# Altium footprint library ti-import.PcbLib: 47 footprints (part 2 of 3)
Each footprint in its own frame and in the unit in brackets; x right, y up, seen from the top. Pads: shape width x height; smd on the part's side, far side on the other; paste and mask are expansions set on the pad; w line width, h text height; cw(c..) or ccw(c..) is an arc to the next point about the centre after c.
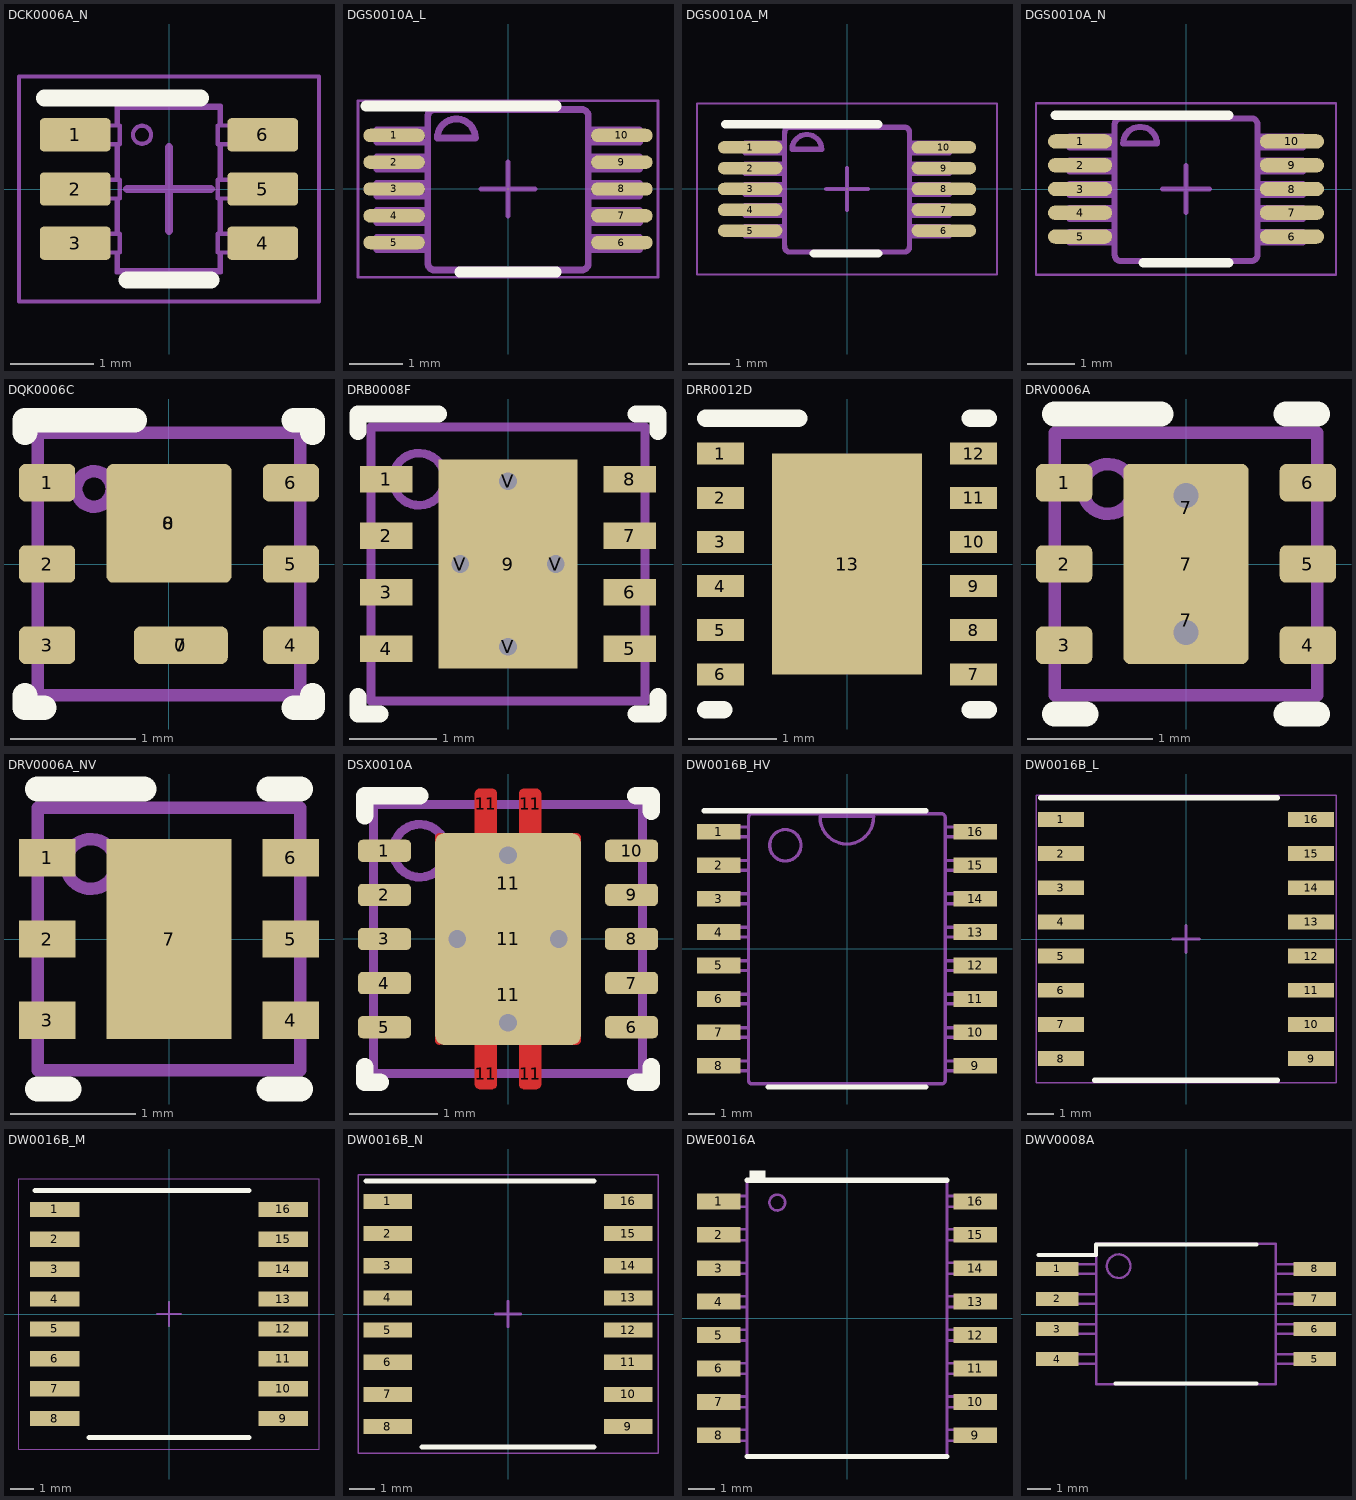
[diagram p1: the footprints below, top view; thin cyan lines are the x and y axes]

## DCK0006A_N [mm] "SOT23, 6-Leads, Body 2x1.3mm, Pitch 0.65mm, Lead Span 2.1mm, IPC Medium Density"
height 1.1
pads (6):
  rrect25% 0.85x0.4 smd: 1(-1.125,0.65) 2(-1.125,0) 3(-1.125,-0.65) 4(1.125,-0.65) 5(1.125,0) 6(1.125,0.65)
Top Overlay:
  lines w0.2: -1.499,1.092 0.381,1.092 ; -0.508,-1.092 0.508,-1.092
Mechanical 5:
  lines w0.05: -0.613,-0.763 -0.613,-0.976 0.607,-0.976 0.607,-0.763 ; -0.613,-0.538 -0.613,-0.113 ; -0.613,0.112 -0.613,0.537 ; -0.613,0.762 -0.613,0.974 0.607,0.974 0.607,0.762 ; 0.607,-0.538 0.607,-0.113 ; 0.607,0.112 0.607,0.537 ; -0.628,-0.763 -0.591,-0.763 -0.591,-0.538 -0.628,-0.538 ; -0.628,-0.763 -0.853,-0.763 -0.865,-0.763 -0.959,-0.763 -1.143,-0.763 -1.143,-0.538 -0.959,-0.538 -0.865,-0.538 -0.853,-0.538 -0.628,-0.538 ; -0.628,-0.763 -0.628,-1.001 0.622,-1.001 0.622,-0.763 ; -0.628,-0.538 -0.628,-0.113 ; -0.628,-0.113 -0.591,-0.113 -0.591,0.112 -0.628,0.112 ; -0.628,-0.113 -0.853,-0.113 -0.865,-0.113 -0.959,-0.113 -1.143,-0.113 -1.143,0.112 -0.959,0.112 -0.865,0.112 -0.853,0.112 -0.628,0.112 ; -0.628,0.112 -0.628,0.537 ; -0.628,0.537 -0.591,0.537 -0.591,0.762 -0.628,0.762 ; -0.628,0.537 -0.853,0.537 -0.865,0.537 -0.959,0.537 -1.143,0.537 -1.143,0.762 -0.959,0.762 -0.865,0.762 -0.853,0.762 -0.628,0.762 ; -0.628,0.762 -0.628,0.999 0.622,0.999 0.622,0.762 ; 0.622,-0.763 0.585,-0.763 0.585,-0.538 0.622,-0.538 ; 0.622,-0.763 0.847,-0.763 0.859,-0.763 0.953,-0.763 1.137,-0.763 1.137,-0.538 0.953,-0.538 0.859,-0.538 0.847,-0.538 0.622,-0.538 ; 0.622,-0.538 0.622,-0.113 ; 0.622,-0.113 0.847,-0.113 0.859,-0.113 0.953,-0.113 1.137,-0.113 1.137,0.112 0.953,0.112 0.859,0.112 0.847,0.112 0.622,0.112 ; 0.622,-0.113 0.585,-0.113 0.585,0.112 0.622,0.112 ; 0.622,0.112 0.622,0.537 ; 0.622,0.537 0.585,0.537 0.585,0.762 0.622,0.762 ; 0.622,0.537 0.847,0.537 0.859,0.537 0.953,0.537 1.137,0.537 1.137,0.762 0.953,0.762 0.859,0.762 0.847,0.762 0.622,0.762 ; -0.432,0.65 ccw(c-0.323,0.65) -0.215,0.65 ccw(c-0.323,0.65) -0.432,0.65
  text ".Designator" at -0.051,0.66 h0.38
Mechanical 15:
  lines w0.05: -1.8,-1.35 1.8,-1.35 1.8,1.35 -1.8,1.35 -1.8,-1.35
  lines w0.1: -0.5,0 0.5,0 ; 0,-0.5 0,0.5
3D body "DCK0006A.stp": height 0.95, standoff 0, extent -1.14,-1 1.14,1

## DGS0010A_L [mm]
pads (10):
  oval 1.15x0.25 smd paste+0 mask+0.051: 1(-2.125,1) 2(-2.125,0.5) 3(-2.125,0) 4(-2.125,-0.5) 5(-2.125,-1) 6(2.125,-1) 7(2.125,-0.5) 8(2.125,0) 9(2.125,0.5) 10(2.125,1)
Top Overlay:
  lines w0.2: -2.65,1.55 0.9,1.55 ; -0.9,-1.55 0.9,-1.55
Mechanical 13:
  lines w0.127: -2.45,-1.128 -2.21,-1.128 -2.09,-1.128 -2.087,-1.128 -1.784,-1.128 -1.498,-1.128 -1.498,-0.899 -1.784,-0.899 -2.087,-0.899 -2.09,-0.899 -2.21,-0.899 -2.45,-0.899 -2.45,-1.128 ; -2.45,-0.628 -2.21,-0.628 -2.09,-0.628 -2.087,-0.628 -1.784,-0.628 -1.498,-0.628 -1.498,-0.4 -1.784,-0.4 -2.087,-0.4 -2.09,-0.4 -2.21,-0.4 -2.45,-0.4 -2.45,-0.628 ; -2.45,-0.128 -2.21,-0.128 -2.09,-0.128 -2.087,-0.128 -1.784,-0.128 -1.498,-0.128 -1.498,0.1 -1.784,0.1 -2.087,0.1 -2.09,0.1 -2.21,0.1 -2.45,0.1 -2.45,-0.128 ; -2.45,0.372 -2.21,0.372 -2.09,0.372 -2.087,0.372 -1.784,0.372 -1.498,0.372 -1.498,0.6 -1.784,0.6 -2.087,0.6 -2.09,0.6 -2.21,0.6 -2.45,0.6 -2.45,0.372 ; -2.45,0.871 -2.21,0.871 -2.09,0.871 -2.087,0.871 -1.784,0.871 -1.498,0.871 -1.498,1.1 -1.784,1.1 -2.087,1.1 -2.09,1.1 -2.21,1.1 -2.45,1.1 -2.45,0.871 ; -1.497,-1.388 ccw(c-1.37,-1.386) -1.373,-1.513 -1.371,-1.513 1.373,-1.513 1.375,-1.513 ccw(c1.373,-1.386) 1.5,-1.388 1.5,-1.386 1.5,1.358 1.5,1.36 ccw(c1.373,1.358) 1.375,1.485 1.373,1.485 -1.371,1.485 -1.373,1.485 ccw(c-1.37,1.358) -1.497,1.36 -1.498,1.358 -1.498,-1.386 -1.497,-1.388 ; -1.32,0.951 cw(c-0.964,0.951) -0.609,0.951 -1.32,0.951 ; 1.5,-1.128 1.786,-1.128 2.089,-1.128 2.093,-1.128 2.213,-1.128 2.452,-1.128 2.452,-0.899 2.213,-0.899 2.093,-0.899 2.089,-0.899 1.786,-0.899 1.5,-0.899 1.5,-1.128 ; 1.5,-0.628 1.786,-0.628 2.089,-0.628 2.093,-0.628 2.213,-0.628 2.452,-0.628 2.452,-0.4 2.213,-0.4 2.093,-0.4 2.089,-0.4 1.786,-0.4 1.5,-0.4 1.5,-0.628 ; 1.5,-0.128 1.786,-0.128 2.089,-0.128 2.093,-0.128 2.213,-0.128 2.452,-0.128 2.452,0.1 2.213,0.1 2.093,0.1 2.089,0.1 1.786,0.1 1.5,0.1 1.5,-0.128 ; 1.5,0.372 1.786,0.372 2.089,0.372 2.093,0.372 2.213,0.372 2.452,0.372 2.452,0.6 2.213,0.6 2.093,0.6 2.089,0.6 1.786,0.6 1.5,0.6 1.5,0.372 ; 1.5,0.871 1.786,0.871 2.089,0.871 2.093,0.871 2.213,0.871 2.452,0.871 2.452,1.1 2.213,1.1 2.093,1.1 2.089,1.1 1.786,1.1 1.5,1.1 1.5,0.871
Mechanical 15:
  lines w0.05: -2.8,-1.65 -2.8,1.65 2.8,1.65 2.8,-1.65 -2.8,-1.65
  lines w0.1: -0.5,0 0.5,0 ; 0,-0.5 0,0.5
3D body "DGS0010A.stp": height 0.41, standoff -0.69, extent -2.463,-1.5 2.463,1.5

## DGS0010A_M [mm]
pads (10):
  oval 1.55x0.3 smd paste+0 mask+0.051: 1(-2.325,1) 2(-2.325,0.5) 3(-2.325,0) 4(-2.325,-0.5) 5(-2.325,-1) 6(2.325,-1) 7(2.325,-0.5) 8(2.325,0) 9(2.325,0.5) 10(2.325,1)
Top Overlay:
  lines w0.2: -2.925,1.55 0.75,1.55 ; -0.8,-1.55 0.75,-1.55
Mechanical 13:
  lines w0.127: -2.45,-1.128 -2.45,-0.899 -2.21,-0.899 -2.09,-0.899 -2.087,-0.899 -1.784,-0.899 -1.498,-0.899 -1.498,-1.128 -1.784,-1.128 -2.087,-1.128 -2.09,-1.128 -2.21,-1.128 -2.45,-1.128 ; -2.45,-0.628 -2.45,-0.4 -2.21,-0.4 -2.09,-0.4 -2.087,-0.4 -1.784,-0.4 -1.498,-0.4 -1.498,-0.628 -1.784,-0.628 -2.087,-0.628 -2.09,-0.628 -2.21,-0.628 -2.45,-0.628 ; -2.45,-0.128 -2.45,0.1 -2.21,0.1 -2.09,0.1 -2.087,0.1 -1.784,0.1 -1.498,0.1 -1.498,-0.128 -1.784,-0.128 -2.087,-0.128 -2.09,-0.128 -2.21,-0.128 -2.45,-0.128 ; -2.45,0.372 -2.45,0.6 -2.21,0.6 -2.09,0.6 -2.087,0.6 -1.784,0.6 -1.498,0.6 -1.498,0.372 -1.784,0.372 -2.087,0.372 -2.09,0.372 -2.21,0.372 -2.45,0.372 ; -2.45,0.871 -2.45,1.1 -2.21,1.1 -2.09,1.1 -2.087,1.1 -1.784,1.1 -1.498,1.1 -1.498,0.871 -1.784,0.871 -2.087,0.871 -2.09,0.871 -2.21,0.871 -2.45,0.871 ; -1.497,-1.388 ccw(c-1.37,-1.386) -1.373,-1.513 -1.371,-1.513 1.373,-1.513 1.375,-1.513 ccw(c1.373,-1.386) 1.5,-1.388 1.5,-1.386 1.5,1.358 1.5,1.36 ccw(c1.373,1.358) 1.375,1.485 1.373,1.485 -1.371,1.485 -1.373,1.485 ccw(c-1.37,1.358) -1.497,1.36 -1.498,1.358 -1.498,-1.386 -1.497,-1.388 ; -1.32,0.951 cw(c-0.964,0.951) -0.609,0.951 -1.32,0.951 ; 1.5,-1.128 1.5,-0.899 1.786,-0.899 2.089,-0.899 2.093,-0.899 2.213,-0.899 2.452,-0.899 2.452,-1.128 2.213,-1.128 2.093,-1.128 2.089,-1.128 1.786,-1.128 1.5,-1.128 ; 1.5,-0.628 1.5,-0.4 1.786,-0.4 2.089,-0.4 2.093,-0.4 2.213,-0.4 2.452,-0.4 2.452,-0.628 2.213,-0.628 2.093,-0.628 2.089,-0.628 1.786,-0.628 1.5,-0.628 ; 1.5,-0.128 1.5,0.1 1.786,0.1 2.089,0.1 2.093,0.1 2.213,0.1 2.452,0.1 2.452,-0.128 2.213,-0.128 2.093,-0.128 2.089,-0.128 1.786,-0.128 1.5,-0.128 ; 1.5,0.372 1.5,0.6 1.786,0.6 2.089,0.6 2.093,0.6 2.213,0.6 2.452,0.6 2.452,0.372 2.213,0.372 2.093,0.372 2.089,0.372 1.786,0.372 1.5,0.372 ; 1.5,0.871 1.5,1.1 1.786,1.1 2.089,1.1 2.093,1.1 2.213,1.1 2.452,1.1 2.452,0.871 2.213,0.871 2.093,0.871 2.089,0.871 1.786,0.871 1.5,0.871
Mechanical 15:
  lines w0.05: -3.6,-2.05 -3.6,2.05 3.6,2.05 3.6,-2.05 -3.6,-2.05
  lines w0.1: -0.5,0 0.5,0 ; 0,-0.5 0,0.5
3D body "DGS0010A.stp": height 0.41, standoff -0.69, extent -2.463,-1.5 2.463,1.5

## DGS0010A_N [mm]
pads (10):
  oval 1.35x0.3 smd paste+0 mask+0.051: 1(-2.225,1) 2(-2.225,0.5) 3(-2.225,0) 4(-2.225,-0.5) 5(-2.225,-1) 6(2.225,-1) 7(2.225,-0.5) 8(2.225,0) 9(2.225,0.5) 10(2.225,1)
Top Overlay:
  lines w0.2: -2.75,1.55 0.9,1.55 ; -0.9,-1.55 0.9,-1.55
Mechanical 13:
  lines w0.127: -2.45,-1.128 -2.21,-1.128 -2.09,-1.128 -2.087,-1.128 -1.784,-1.128 -1.498,-1.128 -1.498,-0.899 -1.784,-0.899 -2.087,-0.899 -2.09,-0.899 -2.21,-0.899 -2.45,-0.899 -2.45,-1.128 ; -2.45,-0.628 -2.21,-0.628 -2.09,-0.628 -2.087,-0.628 -1.784,-0.628 -1.498,-0.628 -1.498,-0.4 -1.784,-0.4 -2.087,-0.4 -2.09,-0.4 -2.21,-0.4 -2.45,-0.4 -2.45,-0.628 ; -2.45,-0.128 -2.21,-0.128 -2.09,-0.128 -2.087,-0.128 -1.784,-0.128 -1.498,-0.128 -1.498,0.1 -1.784,0.1 -2.087,0.1 -2.09,0.1 -2.21,0.1 -2.45,0.1 -2.45,-0.128 ; -2.45,0.372 -2.21,0.372 -2.09,0.372 -2.087,0.372 -1.784,0.372 -1.498,0.372 -1.498,0.6 -1.784,0.6 -2.087,0.6 -2.09,0.6 -2.21,0.6 -2.45,0.6 -2.45,0.372 ; -2.45,0.871 -2.21,0.871 -2.09,0.871 -2.087,0.871 -1.784,0.871 -1.498,0.871 -1.498,1.1 -1.784,1.1 -2.087,1.1 -2.09,1.1 -2.21,1.1 -2.45,1.1 -2.45,0.871 ; -1.497,-1.388 ccw(c-1.37,-1.386) -1.373,-1.513 -1.371,-1.513 1.373,-1.513 1.375,-1.513 ccw(c1.373,-1.386) 1.5,-1.388 1.5,-1.386 1.5,1.358 1.5,1.36 ccw(c1.373,1.358) 1.375,1.485 1.373,1.485 -1.371,1.485 -1.373,1.485 ccw(c-1.37,1.358) -1.497,1.36 -1.498,1.358 -1.498,-1.386 -1.497,-1.388 ; -1.32,0.951 cw(c-0.964,0.951) -0.609,0.951 -1.32,0.951 ; 1.5,-1.128 1.786,-1.128 2.089,-1.128 2.093,-1.128 2.213,-1.128 2.452,-1.128 2.452,-0.899 2.213,-0.899 2.093,-0.899 2.089,-0.899 1.786,-0.899 1.5,-0.899 1.5,-1.128 ; 1.5,-0.628 1.786,-0.628 2.089,-0.628 2.093,-0.628 2.213,-0.628 2.452,-0.628 2.452,-0.4 2.213,-0.4 2.093,-0.4 2.089,-0.4 1.786,-0.4 1.5,-0.4 1.5,-0.628 ; 1.5,-0.128 1.786,-0.128 2.089,-0.128 2.093,-0.128 2.213,-0.128 2.452,-0.128 2.452,0.1 2.213,0.1 2.093,0.1 2.089,0.1 1.786,0.1 1.5,0.1 1.5,-0.128 ; 1.5,0.372 1.786,0.372 2.089,0.372 2.093,0.372 2.213,0.372 2.452,0.372 2.452,0.6 2.213,0.6 2.093,0.6 2.089,0.6 1.786,0.6 1.5,0.6 1.5,0.372 ; 1.5,0.871 1.786,0.871 2.089,0.871 2.093,0.871 2.213,0.871 2.452,0.871 2.452,1.1 2.213,1.1 2.093,1.1 2.089,1.1 1.786,1.1 1.5,1.1 1.5,0.871
Mechanical 15:
  lines w0.05: -3.15,-1.8 -3.15,1.8 3.15,1.8 3.15,-1.8 -3.15,-1.8
  lines w0.1: -0.5,0 0.5,0 ; 0,-0.5 0,0.5
3D body "DGS0010A.stp": height 0.41, standoff -0.69, extent -2.463,-1.5 2.463,1.5

## DQK0006C [mm] "WSON"
height 0.8
pads (10):
  rrect50% 0.9x0.86 on Top Paste: 0(0,0.325)
  rrect50% 0.7x0.29 on Top Paste: 0(0.095,-0.65)
  rrect33% 0.45x0.3 smd: 1(-0.975,0.65) 2(-0.975,0) 3(-0.975,-0.65) 4(0.975,-0.65) 5(0.975,0) 6(0.975,0.65)
  rrect33% 0.75x0.3 smd paste-0.15: 7(0.095,-0.65)
  rrect11% 1x0.95 smd paste-0.5: 8(0,0.325)
Top Overlay:
  lines w0.2: -1.15,-1.05 -1.15,-1.15 -1,-1.15 ; -1.15,1.05 -1.15,1.15 -0.275,1.15 ; 1,-1.15 1.15,-1.15 1.15,-1.05 ; 1,1.15 1.15,1.15 1.15,1.05
Mechanical 5:
  circle w0.1: c-0.6,0.6 r0.141
  lines w0.1: -1.05,-1.05 1.05,-1.05 1.05,1.05 -1.05,1.05 -1.05,-1.05
  text ".Designator" at -0.9,-0.4 h0.5
3D body "DQK0006C.stp": height 0.82, standoff 0, extent -1,-1 1,1

## DRB0008F [mm]
pads (13):
  rect 0.6x0.3 smd paste+0 mask+0: 1(-1.4,0.975) 2(-1.4,0.325) 3(-1.4,-0.325) 4(-1.4,-0.975) 5(1.4,-0.975) 6(1.4,-0.325) 7(1.4,0.325) 8(1.4,0.975)
  rect 1.6x2.4 smd paste-1.187 mask+0: 9(0,0)
  round 0.5 / inner round 1.524 / far side round 0.5 hole 0.203 mask+0: V(-0.55,0) V(0,-0.95) V(0,0.95) V(0.55,0)
Top Overlay:
  lines w0.2: -1.725,-1.525 -1.725,-1.725 -1.475,-1.725 ; -1.725,1.525 -1.725,1.725 -0.8,1.725 ; 1.475,-1.725 1.725,-1.725 1.725,-1.525 ; 1.475,1.725 1.725,1.725 1.725,1.525
Top Paste:
  region: -0.734,0.139 -0.735,0.148 -0.735,1.122 -0.734,1.131 -0.731,1.14 -0.727,1.149 -0.721,1.156 -0.714,1.162 -0.705,1.166 -0.696,1.169 -0.687,1.17 0.687,1.17 0.696,1.169 0.705,1.166 0.714,1.162 0.721,1.156 0.727,1.149 0.731,1.14 0.734,1.131 0.735,1.122 0.735,0.148 0.734,0.139 0.731,0.13 0.727,0.121 0.721,0.114 0.714,0.108 0.705,0.104 0.696,0.101 0.687,0.1 -0.687,0.1 -0.696,0.101 -0.705,0.104 -0.714,0.108 -0.721,0.114 -0.727,0.121 -0.731,0.13
  region: -0.734,-1.131 -0.735,-1.122 -0.735,-0.148 -0.734,-0.139 -0.731,-0.13 -0.727,-0.121 -0.721,-0.114 -0.714,-0.108 -0.705,-0.104 -0.696,-0.101 -0.687,-0.1 0.687,-0.1 0.696,-0.101 0.705,-0.104 0.714,-0.108 0.721,-0.114 0.727,-0.121 0.731,-0.13 0.734,-0.139 0.735,-0.148 0.735,-1.122 0.734,-1.131 0.731,-1.14 0.727,-1.149 0.721,-1.156 0.714,-1.162 0.705,-1.166 0.696,-1.169 0.687,-1.17 -0.687,-1.17 -0.696,-1.169 -0.705,-1.166 -0.714,-1.162 -0.721,-1.156 -0.727,-1.149 -0.731,-1.14
Mechanical 13:
  circle w0.1: c-1.025,0.975 r0.3
  lines w0.1: -1.575,-1.575 -1.575,1.575 1.575,1.575 1.575,-1.575 -1.575,-1.575
3D body "DRB0008F.stp": height 0.77, standoff 0, extent -1.5,-1.5 1.5,1.5

## DRR0012D [mm]
pads (13):
  rect 0.53x0.25 smd paste+0 mask+0.051: 1(-1.435,1.25) 2(-1.435,0.75) 3(-1.435,0.25) 4(-1.435,-0.25) 5(-1.435,-0.75) 6(-1.435,-1.25) 7(1.435,-1.25) 8(1.435,-0.75) 9(1.435,-0.25) 10(1.435,0.25) 11(1.435,0.75) 12(1.435,1.25)
  rect 1.7x2.5 smd paste-1.237 mask+0.051: 13(0,0)
Top Overlay:
  lines w0.2: -1.6,-1.65 -1.4,-1.65 ; -1.6,1.65 -0.55,1.65 ; 1.4,-1.65 1.6,-1.65 ; 1.4,1.65 1.6,1.65
Top Paste:
  region: -0.774,-1.16 -0.775,-1.151 -0.775,-0.15 -0.774,-0.14 -0.771,-0.131 -0.767,-0.122 -0.761,-0.114 -0.753,-0.108 -0.744,-0.104 -0.735,-0.101 -0.726,-0.1 0.726,-0.1 0.735,-0.101 0.744,-0.104 0.753,-0.108 0.761,-0.114 0.767,-0.122 0.771,-0.131 0.774,-0.14 0.775,-0.15 0.775,-1.151 0.774,-1.16 0.771,-1.169 0.767,-1.178 0.761,-1.186 0.753,-1.192 0.744,-1.196 0.735,-1.199 0.726,-1.2 -0.726,-1.2 -0.735,-1.199 -0.744,-1.196 -0.753,-1.192 -0.761,-1.186 -0.767,-1.178 -0.771,-1.169
  region: -0.774,0.14 -0.775,0.15 -0.775,1.151 -0.774,1.16 -0.771,1.169 -0.767,1.178 -0.761,1.186 -0.753,1.192 -0.744,1.196 -0.735,1.199 -0.726,1.2 0.726,1.2 0.735,1.199 0.744,1.196 0.753,1.192 0.761,1.186 0.767,1.178 0.771,1.169 0.774,1.16 0.775,1.151 0.775,0.15 0.774,0.14 0.771,0.131 0.767,0.122 0.761,0.114 0.753,0.108 0.744,0.104 0.735,0.101 0.726,0.1 -0.726,0.1 -0.735,0.101 -0.744,0.104 -0.753,0.108 -0.761,0.114 -0.767,0.122 -0.771,0.131
3D body: height 0.25, standoff 0, extent 0,0 0.254,0.254

## DRV0006A [mm] "SON, 6-Leads, Body 2x2mm, Pitch 0.65mm, Thermal Pad 1.6x1mm, TI Recommended"
height 0.8
pads (9):
  rrect33% 0.45x0.3 smd: 1(-0.975,0.65) 2(-0.975,0) 3(-0.975,-0.65) 4(0.975,-0.65) 5(0.975,0) 6(0.975,0.65)
  rrect50% 1x0.7 on Top Paste: 7(0,-0.45) 7(0,0.45)
  rrect10% 1x1.6 smd paste-0.5: 7(0,0)
via 0,0.55 diameter 0.5 hole 0.2
via 0,-0.55 diameter 0.5 hole 0.2
Top Overlay:
  lines w0.2: -1.05,-1.2 -0.8,-1.2 ; -1.05,1.2 -0.2,1.2 ; 0.8,-1.2 1.05,-1.2 ; 0.8,1.2 1.05,1.2
Mechanical 5:
  circle w0.1: c-0.625,0.6 r0.2
  lines w0.1: -1.05,-1.05 -1.05,1.05 1.05,1.05 1.05,-1.05 -1.05,-1.05
  text ".Designator" at 0.476,0.318 h0.51
3D body: height 0.81, standoff 0.5, extent -0.824,0.401 -0.426,0.799
3D body: height 0.8, standoff 0, extent -1.05,-1.05 1.05,1.05

## DRV0006A_NV [mm]
pads (7):
  rect 0.45x0.3 smd paste+0 mask+0.051: 1(-0.975,0.65) 2(-0.975,0) 3(-0.975,-0.65) 4(0.975,-0.65) 5(0.975,0) 6(0.975,0.65)
  rect 1x1.6 smd paste-0.5 mask+0.051: 7(0,0)
Top Overlay:
  lines w0.2: -1.05,-1.2 -0.8,-1.2 ; -1.05,1.2 -0.2,1.2 ; 0.8,-1.2 1.05,-1.2 ; 0.8,1.2 1.05,1.2
Top Paste:
  region: -0.499,-0.761 -0.5,-0.751 -0.5,-0.149 -0.499,-0.139 -0.496,-0.13 -0.492,-0.122 -0.486,-0.114 -0.478,-0.108 -0.47,-0.104 -0.461,-0.101 -0.451,-0.1 0.451,-0.1 0.461,-0.101 0.47,-0.104 0.478,-0.108 0.486,-0.114 0.492,-0.122 0.496,-0.13 0.499,-0.139 0.5,-0.149 0.5,-0.751 0.499,-0.761 0.496,-0.77 0.492,-0.778 0.486,-0.786 0.478,-0.792 0.47,-0.796 0.461,-0.799 0.451,-0.8 -0.451,-0.8 -0.461,-0.799 -0.47,-0.796 -0.478,-0.792 -0.486,-0.786 -0.492,-0.778 -0.496,-0.77
  region: -0.499,0.139 -0.5,0.149 -0.5,0.751 -0.499,0.761 -0.496,0.77 -0.492,0.778 -0.486,0.786 -0.478,0.792 -0.47,0.796 -0.461,0.799 -0.451,0.8 0.451,0.8 0.461,0.799 0.47,0.796 0.478,0.792 0.486,0.786 0.492,0.778 0.496,0.77 0.499,0.761 0.5,0.751 0.5,0.149 0.499,0.139 0.496,0.13 0.492,0.122 0.486,0.114 0.478,0.108 0.47,0.104 0.461,0.101 0.451,0.1 -0.451,0.1 -0.461,0.101 -0.47,0.104 -0.478,0.108 -0.486,0.114 -0.492,0.122 -0.496,0.13
Mechanical 13:
  circle w0.1: c-0.625,0.6 r0.2
  lines w0.1: -1.05,-1.05 1.05,-1.05 1.05,1.05 -1.05,1.05 -1.05,-1.05
3D body "DRV0006A.stp": height 0.8, standoff 0, extent -1,-1 1,1
3D body: height 0.25, standoff 0, extent 0,0 0.254,0.254

## DSX0010A [mm] "SON, 10-Leads, Body 3x3 mm, Pitch 0.5mm"
height 0.8
pads (17):
  rrect40% 0.6x0.25 smd: 1(-1.4,1) 2(-1.4,0.5) 3(-1.4,0) 4(-1.4,-0.5) 5(-1.4,-1) 6(1.4,-1) 7(1.4,-0.5) 8(1.4,0) 9(1.4,0.5) 10(1.4,1)
  rrect50% 0.25x0.34 on Top Paste: 11(-0.25,-1.53) 11(-0.25,1.53) 11(0.25,-1.53) 11(0.25,1.53)
  rrect50% 1.5x1.06 on Top Paste: 11(0,-0.63) 11(0,0.63)
  rrect12% 1.65x2.4 smd paste-1 mask-2: 11(0,0)
via 0.575,0 diameter 0.5 hole 0.2
via -0.575,0 diameter 0.5 hole 0.2
via 0,0.95 diameter 0.5 hole 0.2
via 0,-0.95 diameter 0.5 hole 0.2
Top Layer:
  region: -0.775,-1.2 -0.375,-1.2 -0.375,-1.65 -0.375,-1.66 -0.367,-1.678 -0.353,-1.692 -0.335,-1.7 -0.325,-1.7 -0.175,-1.7 -0.165,-1.7 -0.147,-1.692 -0.133,-1.678 -0.125,-1.66 -0.125,-1.65 -0.125,-1.2 0.125,-1.2 0.125,-1.65 0.125,-1.66 0.133,-1.678 0.147,-1.692 0.165,-1.7 0.175,-1.7 0.325,-1.7 0.335,-1.7 0.353,-1.692 0.367,-1.678 0.375,-1.66 0.375,-1.65 0.375,-1.2 0.775,-1.2 0.785,-1.2 0.803,-1.192 0.817,-1.178 0.825,-1.16 0.825,-1.15 0.825,1.15 0.825,1.16 0.817,1.178 0.803,1.192 0.785,1.2 0.775,1.2 0.375,1.2 0.375,1.65 0.375,1.66 0.367,1.678 0.353,1.692 0.335,1.7 0.325,1.7 0.175,1.7 0.165,1.7 0.147,1.692 0.133,1.678 0.125,1.66 0.125,1.65 0.125,1.2 -0.125,1.2 -0.125,1.65 -0.125,1.66 -0.133,1.678 -0.147,1.692 -0.165,1.7 -0.175,1.7 -0.325,1.7 -0.335,1.7 -0.353,1.692 -0.367,1.678 -0.375,1.66 -0.375,1.65 -0.375,1.2 -0.775,1.2 -0.785,1.2 -0.803,1.192 -0.817,1.178 -0.825,1.16 -0.825,1.15 -0.825,-1.15 -0.825,-1.16 -0.817,-1.178 -0.803,-1.192 -0.785,-1.2
Top Overlay:
  lines w0.2: -1.625,-1.45 -1.625,-1.625 -1.45,-1.625 ; -1.625,1.4 -1.625,1.625 -1,1.625 ; 1.45,-1.625 1.625,-1.625 1.625,-1.45 ; 1.45,1.625 1.625,1.625 1.625,1.45
Mechanical 5:
  circle w0.1: c-1,1 r0.3
  lines w0.1: -1.525,-1.525 1.525,-1.525 1.525,1.525 -1.525,1.525 -1.525,-1.525
  text ".Designator" at -0.318,0.594 h0.76
3D body "DSX0010A.stp": height 0.8, standoff 0, extent -1.5,-1.5 1.5,1.5

## DW0016B_HV [mm]
pads (16):
  rect 1.65x0.6 smd paste+0 mask+0.051: 1(-4.875,4.445) 2(-4.875,3.175) 3(-4.875,1.905) 4(-4.875,0.635) 5(-4.875,-0.635) 6(-4.875,-1.905) 7(-4.875,-3.175) 8(-4.875,-4.445) 9(4.875,-4.445) 10(4.875,-3.175) 11(4.875,-1.905) 12(4.875,-0.635) 13(4.875,0.635) 14(4.875,1.905) 15(4.875,3.175) 16(4.875,4.445)
Top Overlay:
  lines w0.2: -5.425,5.25 3,5.25 ; -3,-5.25 3,-5.25
Mechanical 13:
  drawing of 193 lines, arcs and shapes, not listed
3D body "DW0016B.stp": height 2.59, standoff 0, extent -5.167,-5.15 5.168,5.15

## DW0016B_L [mm]
pads (16):
  rect 1.7x0.55 smd paste+0 mask+0.051: 1(-4.65,4.445) 2(-4.65,3.175) 3(-4.65,1.905) 4(-4.65,0.635) 5(-4.65,-0.635) 6(-4.65,-1.905) 7(-4.65,-3.175) 8(-4.65,-4.445) 9(4.65,-4.445) 10(4.65,-3.175) 11(4.65,-1.905) 12(4.65,-0.635) 13(4.65,0.635) 14(4.65,1.905) 15(4.65,3.175) 16(4.65,4.445)
Top Overlay:
  lines w0.2: -5.4,5.25 3.4,5.25 ; -3.4,-5.25 3.4,-5.25
Mechanical 15:
  lines w0.05: -5.575,-5.35 5.575,-5.35 5.575,5.35 -5.575,5.35 -5.575,-5.35
  lines w0.1: -0.5,0 0.5,0 ; 0,-0.5 0,0.5
3D body "DW0016B.stp": height 2.59, standoff 0, extent -5.167,-5.15 5.168,5.15

## DW0016B_M [mm]
pads (16):
  rect 2.1x0.65 smd paste+0 mask+0.051: 1(-4.85,4.445) 2(-4.85,3.175) 3(-4.85,1.905) 4(-4.85,0.635) 5(-4.85,-0.635) 6(-4.85,-1.905) 7(-4.85,-3.175) 8(-4.85,-4.445) 9(4.85,-4.445) 10(4.85,-3.175) 11(4.85,-1.905) 12(4.85,-0.635) 13(4.85,0.635) 14(4.85,1.905) 15(4.85,3.175) 16(4.85,4.445)
Top Overlay:
  lines w0.2: -5.7,5.25 3.4,5.25 ; -3.4,-5.25 3.4,-5.25
Mechanical 15:
  lines w0.05: -6.375,-5.75 -6.375,5.75 6.375,5.75 6.375,-5.75 -6.375,-5.75
  lines w0.1: -0.5,0 0.5,0 ; 0,-0.5 0,0.5
3D body "DW0016B.stp": height 2.59, standoff 0, extent -5.167,-5.15 5.168,5.15

## DW0016B_N [mm]
pads (16):
  rect 1.9x0.6 smd paste+0 mask+0.051: 1(-4.75,4.445) 2(-4.75,3.175) 3(-4.75,1.905) 4(-4.75,0.635) 5(-4.75,-0.635) 6(-4.75,-1.905) 7(-4.75,-3.175) 8(-4.75,-4.445) 9(4.75,-4.445) 10(4.75,-3.175) 11(4.75,-1.905) 12(4.75,-0.635) 13(4.75,0.635) 14(4.75,1.905) 15(4.75,3.175) 16(4.75,4.445)
Top Overlay:
  lines w0.2: -5.6,5.25 3.4,5.25 ; -3.4,-5.25 3.4,-5.25
Mechanical 15:
  lines w0.05: -5.925,-5.5 5.925,-5.5 5.925,5.5 -5.925,5.5 -5.925,-5.5
  lines w0.1: -0.5,0 0.5,0 ; 0,-0.5 0,0.5
3D body "DW0016B.stp": height 2.59, standoff 0, extent -5.167,-5.15 5.168,5.15

## DWE0016A [mm]
pads (16):
  rect 1.65x0.6 smd paste+0 mask+0: 1(-4.875,4.445) 2(-4.875,3.175) 3(-4.875,1.905) 4(-4.875,0.635) 5(-4.875,-0.635) 6(-4.875,-1.905) 7(-4.875,-3.175) 8(-4.875,-4.445) 9(4.875,-4.445) 10(4.875,-3.175) 11(4.875,-1.905) 12(4.875,-0.635) 13(4.875,0.635) 14(4.875,1.905) 15(4.875,3.175) 16(4.875,4.445)
Top Overlay:
  region: -3.7,5.6 -3.7,5.35 -3.1,5.35 -3.1,5.6
  lines w0.2: -3.8,-5.25 3.8,-5.25 ; -3.8,5.25 3.8,5.25
Mechanical 13:
  circle w0.1: c-2.65,4.4 r0.3
  lines w0.1: -3.8,-4.65 -5.3,-4.65 -5.3,-4.24 -3.8,-4.24 ; -3.8,-3.38 -5.3,-3.38 -5.3,-2.97 -3.8,-2.97 ; -3.8,-2.11 -5.3,-2.11 -5.3,-1.7 -3.8,-1.7 ; -3.8,-0.84 -5.3,-0.84 -5.3,-0.43 -3.8,-0.43 ; -3.8,0.43 -5.3,0.43 -5.3,0.84 -3.8,0.84 ; -3.8,1.7 -5.3,1.7 -5.3,2.11 -3.8,2.11 ; -3.8,2.97 -5.3,2.97 -5.3,3.38 -3.8,3.38 ; -3.8,4.24 -5.3,4.24 -5.3,4.65 -3.8,4.65 ; 3.8,-4.65 5.3,-4.65 5.3,-4.24 3.8,-4.24 ; 3.8,-3.38 5.3,-3.38 5.3,-2.97 3.8,-2.97 ; 3.8,-2.11 5.3,-2.11 5.3,-1.7 3.8,-1.7 ; 3.8,-0.84 5.3,-0.84 5.3,-0.43 3.8,-0.43 ; 3.8,0.43 5.3,0.43 5.3,0.84 3.8,0.84 ; 3.8,1.7 5.3,1.7 5.3,2.11 3.8,2.11 ; 3.8,2.97 5.3,2.97 5.3,3.38 3.8,3.38 ; 3.8,4.24 5.3,4.24 5.3,4.65 3.8,4.65 ; -3.8,-5.25 3.8,-5.25 3.8,5.25 -3.8,5.25 -3.8,-5.25
3D body "DWE0016A.stp": height 2.59, standoff 0, extent -5.167,-5.15 5.167,5.15

## DWV0008A [mm]
pads (8):
  rect 1.8x0.6 smd paste+0 mask+0: 1(-5.45,1.905) 2(-5.45,0.635) 3(-5.45,-0.635) 4(-5.45,-1.905) 5(5.45,-1.905) 6(5.45,-0.635) 7(5.45,0.635) 8(5.45,1.905)
Top Overlay:
  lines w0.17: -6.25,2.5 -3.8,2.5 -3.8,2.95 2.975,2.95 ; -2.975,-2.95 2.975,-2.95
Mechanical 13:
  circle w0.1: c-2.85,2.025 r0.5
  lines w0.1: -3.805,-2.105 -5.8,-2.105 -5.8,-1.705 -3.805,-1.705 ; -3.805,-0.835 -5.8,-0.835 -5.8,-0.435 -3.805,-0.435 ; -3.805,0.435 -5.8,0.435 -5.8,0.835 -3.805,0.835 ; -3.805,1.705 -5.8,1.705 -5.8,2.105 -3.805,2.105 ; 3.805,-2.105 5.8,-2.105 5.8,-1.705 3.805,-1.705 ; 3.805,-0.835 5.8,-0.835 5.8,-0.435 3.805,-0.435 ; 3.805,0.435 5.8,0.435 5.8,0.835 3.805,0.835 ; 3.805,1.705 5.8,1.705 5.8,2.105 3.805,2.105 ; -3.8,-2.975 3.8,-2.975 3.8,2.975 -3.8,2.975 -3.8,-2.975
3D body "DWV0008A.stp": height 2.67, standoff -0.03, extent -5.768,-2.925 5.768,2.925